# Altium footprint library Footprint_Gabriel.PcbLib: 3 footprints
Each footprint in its own frame and in the unit in brackets; x right, y up, seen from the top. Pads: shape width x height; smd on the part's side, far side on the other; paste and mask are expansions set on the pad; w line width, h text height; cw(c..) or ccw(c..) is an arc to the next point about the centre after c.
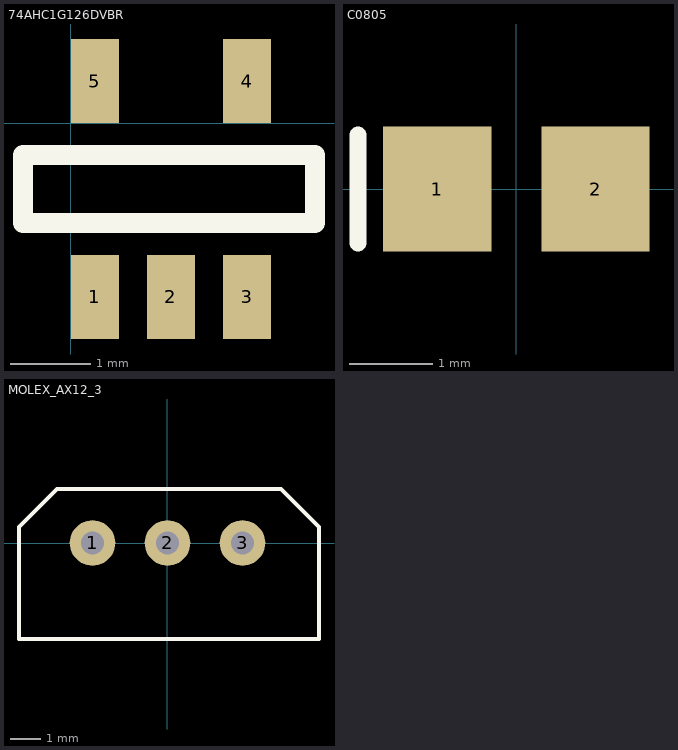
[diagram p0: the footprints below, top view; thin cyan lines are the x and y axes]

## 74AHC1G126DVBR [mm]
pads (5):
  rect 0.6x1.05 smd mask+0.07: 1(0.3,-2.175) 2(1.25,-2.175) 3(2.2,-2.175) 4(2.2,0.525) 5(0.3,0.525)
Top Overlay:
  lines w0.254: -0.6,-1.25 3.05,-1.25 3.05,-0.4 -0.6,-0.4 -0.6,-1.25

## C0805 [mm] "Chip Capacitor; Body 2.0 x 1.2 mm (LxW typ)"
height 1.1
pads (2):
  rect 1.3x1.5 smd: 1(-0.95,0) 2(0.95,0)
Top Overlay:
  lines w0.2: -1.9,-0.65 -1.9,0.65

## MOLEX_AX12_3 [mil]
pads (3):
  round 60 hole 30: 1(-98.43,0) 2(0,0) 3(98.43,0)
Top Overlay:
  lines w5: -194.88,-125.98 -194.88,20.87 -144.88,70.87 148.82,70.87 198.82,20.87 198.82,-125.98 -194.88,-125.98